# EAGLE library part LM4876 (library IC)
National Semiconductor 1.1W Audio Power Amplifier with Logic Low Shutdown
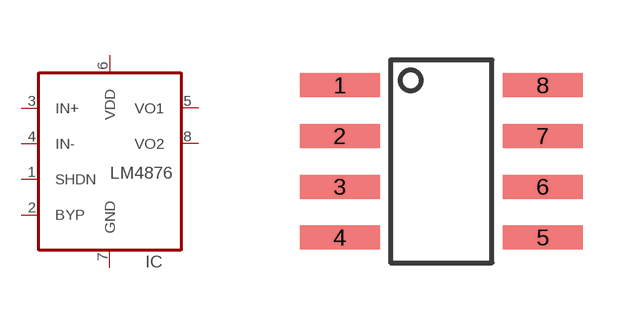
[diagram p41: symbol with the pads of SO8; footprint SO8]

Designator prefix IC

## LM4876  [SO8]
1  SHDN
2  BYP
3  IN+
4  IN-
5  VO1
6  VDD  pwr
7  GND  pwr
8  VO2

## Footprint SO8 (pad centres in mm)
smd 2 x 0.6: 1 -2.54,1.905; 2 -2.54,0.635; 3 -2.54,-0.635; 4 -2.54,-1.905; 5 2.54,-1.905; 6 2.54,-0.635; 7 2.54,0.635; 8 2.54,1.905